# Altium schematic symbol library USB2524.SchLib: 1 symbol
Pins are listed as number, name and electrical type; pins without a type are passive.

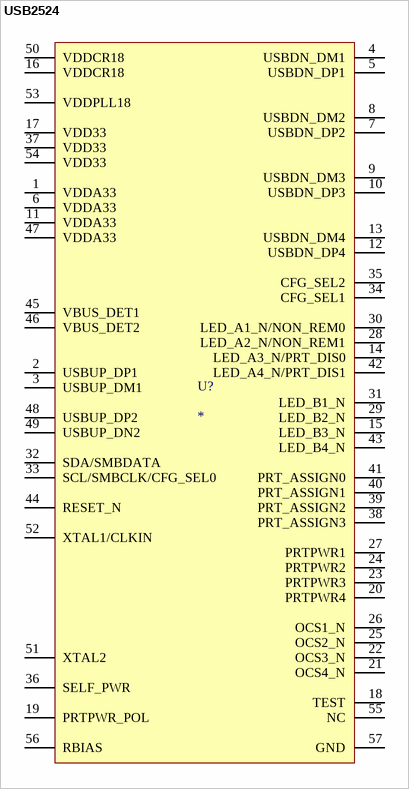
[diagram p0: symbol USB2524]

## USB2524
designator U?
pins: 1 VDDA33, 2 USBUP_DP1, 3 USBUP_DM1, 4 USBDN_DM1, 5 USBDN_DP1, 6 VDDA33, 7 USBDN_DP2, 8 USBDN_DM2, 9 USBDN_DM3, 10 USBDN_DP3, 11 VDDA33, 12 USBDN_DP4, 13 USBDN_DM4, 14 LED_A3_N/PRT_DIS0, 15 LED_B3_N, 16 VDDCR18, 17 VDD33, 18 TEST, 19 PRTPWR_POL, 20 PRTPWR4, 21 OCS4_N, 22 OCS3_N, 23 PRTPWR3, 24 PRTPWR2, 25 OCS2_N, 26 OCS1_N, 27 PRTPWR1, 28 LED_A2_N/NON_REM1, 29 LED_B2_N, 30 LED_A1_N/NON_REM0, 31 LED_B1_N, 32 SDA/SMBDATA, 33 SCL/SMBCLK/CFG_SEL0, 34 CFG_SEL1, 35 CFG_SEL2, 36 SELF_PWR, 37 VDD33, 38 PRT_ASSIGN3, 39 PRT_ASSIGN2, 40 PRT_ASSIGN1, 41 PRT_ASSIGN0, 42 LED_A4_N/PRT_DIS1, 43 LED_B4_N, 44 RESET_N, 45 VBUS_DET1, 46 VBUS_DET2, 47 VDDA33, 48 USBUP_DP2, 49 USBUP_DN2, 50 VDDCR18, 51 XTAL2, 52 XTAL1/CLKIN, 53 VDDPLL18, 54 VDD33, 55 NC, 56 RBIAS, 57 GND